# EAGLE library part PLC_ASET (library Mylib)
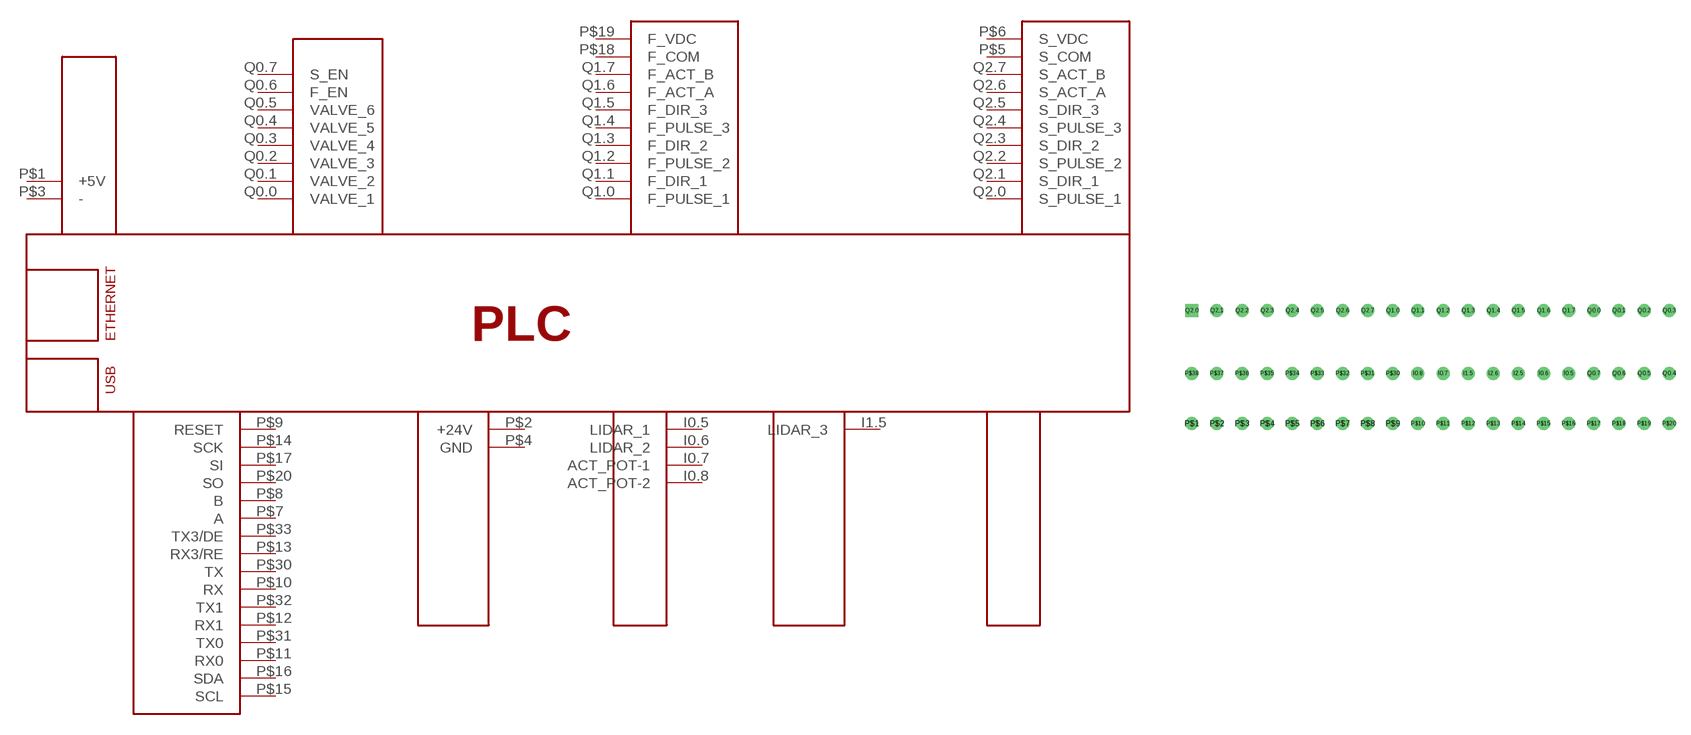
[diagram p3: symbol with the pads of PLC_ASET; footprint PLC_ASET]

Designator prefix -

## PLC_ASET  [PLC_ASET]
I0.5  LIDAR_1
I0.6  LIDAR_2
I0.7  ACT_POT-1
I0.8  ACT_POT-2
I1.5  LIDAR_3
P$1  +5V
P$2  +24V
P$3  -
P$4  GND
P$5  S_COM
P$6  S_VDC
P$7  A
P$8  B
P$9  RESET
P$10  RX
P$11  RX0
P$12  RX1
P$13  RX3/RE
P$14  SCK
P$15  SCL
P$16  SDA
P$17  SI
P$18  F_COM
P$19  F_VDC
P$20  SO
P$30  TX
P$31  TX0
P$32  TX1
P$33  TX3/DE
Q0.0  VALVE_1
Q0.1  VALVE_2
Q0.2  VALVE_3
Q0.3  VALVE_4
Q0.4  VALVE_5
Q0.5  VALVE_6
Q0.6  F_EN
Q0.7  S_EN
Q1.0  F_PULSE_1
Q1.1  F_DIR_1
Q1.2  F_PULSE_2
Q1.3  F_DIR_2
Q1.4  F_PULSE_3
Q1.5  F_DIR_3
Q1.6  F_ACT_A
Q1.7  F_ACT_B
Q2.0  S_PULSE_1
Q2.1  S_DIR_1
Q2.2  S_PULSE_2
Q2.3  S_DIR_2
Q2.4  S_PULSE_3
Q2.5  S_DIR_3
Q2.6  S_ACT_A
Q2.7  S_ACT_B

## Footprint PLC_ASET (pad centres in mm)
drill 0.8: I0.5 20.32,-2.54; I0.6 17.78,-2.54; I0.7 7.62,-2.54; I0.8 5.08,-2.54; I1.5 10.16,-2.54; I2.5 15.24,-2.54; I2.6 12.7,-2.54; P$1 -17.78,-7.62; P$2 -15.24,-7.62; P$3 -12.7,-7.62; P$4 -10.16,-7.62; P$5 -7.62,-7.62; P$6 -5.08,-7.62; P$7 -2.54,-7.62; P$8 0,-7.62; P$9 2.54,-7.62; P$10 5.08,-7.62; P$11 7.62,-7.62; P$12 10.16,-7.62; P$13 12.7,-7.62; P$14 15.24,-7.62; P$15 17.78,-7.62; P$16 20.32,-7.62; P$17 22.86,-7.62; P$18 25.4,-7.62; P$19 27.94,-7.62; P$20 30.48,-7.62; P$30 2.54,-2.54; P$31 0,-2.54; P$32 -2.54,-2.54; P$33 -5.08,-2.54; P$34 -7.62,-2.54; P$35 -10.16,-2.54; P$36 -12.7,-2.54; P$37 -15.24,-2.54; P$38 -17.78,-2.54; Q0.0 22.86,3.81; Q0.1 25.4,3.81; Q0.2 27.94,3.81; Q0.3 30.48,3.81; Q0.4 30.48,-2.54; Q0.5 27.94,-2.54; Q0.6 25.4,-2.54; Q0.7 22.86,-2.54; Q1.0 2.54,3.81; Q1.1 5.08,3.81; Q1.2 7.62,3.81; Q1.3 10.16,3.81; Q1.4 12.7,3.81; Q1.5 15.24,3.81; Q1.6 17.78,3.81; Q1.7 20.32,3.81; Q2.1 -15.24,3.81; Q2.2 -12.7,3.81; Q2.3 -10.16,3.81; Q2.4 -7.62,3.81; Q2.5 -5.08,3.81; Q2.6 -2.54,3.81; Q2.7 0,3.81
drill 0.8 square: Q2.0 -17.78,3.81